# Altium schematic symbol library ARM Cortex.SchLib: 48 symbols (part 2 of 2)

## ST STM32F401 64PIN
designator IC?
pins: 1 VBAT, 2 PC13/ANTI_TAMP, 3 PC14/OSC32_IN "PC14-OSC32_IN/OSC32_IN", 4 PC15/OSC32_OUT "PC15-OSC32_OUT/OSC32_OUT", 5 PH0/OSC_IN "PH0-OSC_IN/OSC_IN", 6 PH1/OSC_OUT "PH1-OSC_OUT/OSC_OUT", 7 ~{RST} "NRST", 8 PC0/ADC1_10, 9 PC1/ADC1_11, 10 PC2/SPI2_MISO/I2S2ext_SD/ADC1_12, 11 PC3/SPI2_MOSI/I2S2_SD/ADC1_13, 12 VSSA/VREF-, 13 VDDA/VREF+, 14 PA0/WKUP/USART2_CTS/TIM2_CH1/TIM2_ETR/TIM5_CH1/ADC1_0, 15 PA1/USART2_RTS/TIM2_CH2/TIM5_CH2/ADC1_1, 16 PA2/USART2_TX/TIM2_CH3/TIM5_CH3/TIM9_CH1/ADC1_2, 17 PA3/USART2_RX/TIM2_CH4/TIM5_CH4/TIM9_CH2/ADC1_3, 18 VSS, 19 VDD, 20 PA4/SPI1_NSS/SPI3_NSS/I2S3_WS/USART2_CK/ADC1_4, 21 PA5/SPI1_SCK/TIM2_CH1/TIM2_ETR/ADC1_5, 22 PA6/SPI1_MISO/TIM1_BKIN/TIM3_CH1/ADC1_6, 23 PA7/SPI1_MOSI/TIM1_CH1N/TIM3_CH2/ADC1_7, 24 PC4/ADC1_14, 25 PC5/ADC1_15, 26 PB0/TIM1_CH2N/TIM3_CH3/ADC1_8, 27 PB1/TIM1_CH3N/TIM3_CH4/ADC1_9, 28 PB2, 29 PB10/SPI2_SCK/I2S2_CK/I2C2_SCL/TIM2_CH3, 30 VCAP1, 31 VSS, 32 VDD, 33 PB12/SPI2_NSS/I2S2_WS/I2C2_SMBAL/TIM1_BKIN, 34 PB13/SPI2_SCK/I2S2_CK/TIM1_CH1N, 35 PB14/SPI2_MISO/I2S2ext_SD/TIM1_CH2N, 36 PB15/SPI2_MOSI/I2S2_SD/TIM1_CH3N/RTC_50Hz, 37 PC6/I2S2_MCK/USART6_TX/TIM3_CH1/SDIO_D6, 38 PC7/I2S3_MCK/USART6_RX/TIM3_CH2/SDIO_D7, 39 PC8/USART6_CK/TIM3_CH3/SDIO_D0, 40 PC9/I2S2_CKIN/I2C3_SDA/TIM3_CH4/SDIO_D1/MCO_2, 41 PA8/I2C3_SCL/USART1_CK/TIM1_CH1/USB_FS_SOF/MCO_1, 42 PA9/I2C3_SMBAL/USART1_TX/TIM1_CH2/USB_FS_VBUS, 43 PA10/USART1_RX/TIM1_CH3/USB_FS_ID, 44 PA11/USART1_CTS/USART6_TX/TIM1_CH4/USB_FS_DM, 45 PA12/USART1_RTS/USART6_RX/TIM1_ETR/USB_FS_DP, 46 PA13/JTMS-SWDIO, 47 VSS, 48 VDD, 49 PA14/JTCK-SWCLK, 50 PA15/SPI1_NSS/SPI3_NSS/I2S3_WS/TIM2_CH1/TIM2_ETR/JTDI, 51 PC10/SPI3_SCK/I2S3_CK/SDIO_D2, 52 PC11/I2S3ext_SD/SPI3_MISO/SDIO_D3, 53 PC12/SPI3_MOSI/I2S3_SD/SDIO_CK, 54 PD2/TIM3_ETR/SDIO_CMD, 55 PB3/SPI1_SCK/SPI3_SCK/I2S3_CK/I2C2_SDA/TIM2_CH2/JTDO-SWO, 56 PB4/SPI1_MISO/SPI3_MISO/I2S3ext_SD/I2C3_SDA/TIM3_CH1/JTRST, 57 PB5/SPI1_MOSI/SPI3_MOSI/I2S3_SD/I2C1_SMBAL/TIM3_CH2, 58 PB6/I2C1_SCL/USART1_TX/TIM4_CH1, 59 PB7/I2C1_SDA/USART1_RX/TIM4_CH2, 60 BOOT0, 61 PB8/I2C1_SCL/TIM4_CH3/TIM10_CH1/SDIO_D4, 62 PB9/SPI2_NSS/I2S2_WS/I2C1_SDA/TIM4_CH4/TIM11_CH1/SDIO_D5, 63 VSS, 64 VDD

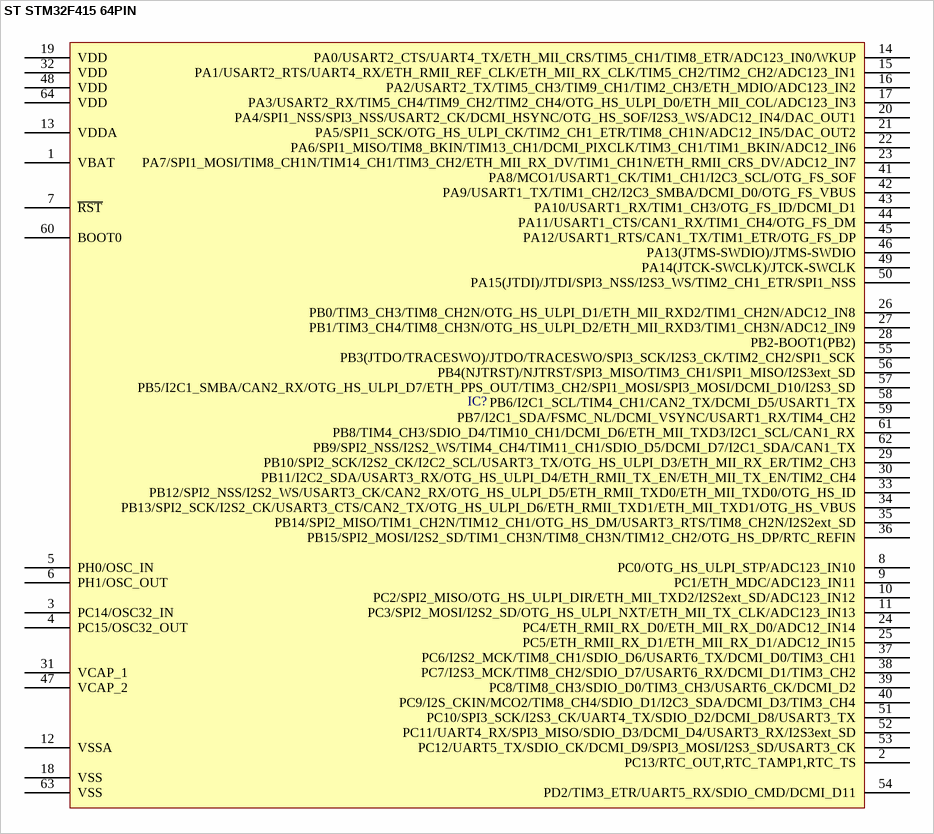
[diagram p12: symbol ST STM32F415 64PIN]

## ST STM32F415 64PIN
designator IC?
pins: 1 VBAT, 2 PC13/RTC_OUT,RTC_TAMP1,RTC_TS, 3 PC14/OSC32_IN "PC14-OSC32_IN(PC14)/EVENTOUT/OSC32_IN", 4 PC15/OSC32_OUT "PC15-OSC32_OUT(PC15)/EVENTOUT/OSC32_OUT", 5 PH0/OSC_IN "PH0-OSC_IN(PH0)/EVENTOUT/OSC_IN", 6 PH1/OSC_OUT "PH1-OSC_OUT(PH1)/EVENTOUT/OSC_OUT", 7 ~{RST} "NRST", 8 PC0/OTG_HS_ULPI_STP/ADC123_IN10, 9 PC1/ETH_MDC/ADC123_IN11, 10 PC2/SPI2_MISO/OTG_HS_ULPI_DIR/ETH_MII_TXD2/I2S2ext_SD/ADC123_IN12, 11 PC3/SPI2_MOSI/I2S2_SD/OTG_HS_ULPI_NXT/ETH_MII_TX_CLK/ADC123_IN13, 12 VSSA, 13 VDDA, 14 PA0/USART2_CTS/UART4_TX/ETH_MII_CRS/TIM5_CH1/TIM8_ETR/ADC123_IN0/WKUP, 15 PA1/USART2_RTS/UART4_RX/ETH_RMII_REF_CLK/ETH_MII_RX_CLK/TIM5_CH2/TIM2_CH2/ADC123_IN1, 16 PA2/USART2_TX/TIM5_CH3/TIM9_CH1/TIM2_CH3/ETH_MDIO/ADC123_IN2, 17 PA3/USART2_RX/TIM5_CH4/TIM9_CH2/TIM2_CH4/OTG_HS_ULPI_D0/ETH_MII_COL/ADC123_IN3, 18 VSS, 19 VDD, 20 PA4/SPI1_NSS/SPI3_NSS/USART2_CK/DCMI_HSYNC/OTG_HS_SOF/I2S3_WS/ADC12_IN4/DAC_OUT1, 21 PA5/SPI1_SCK/OTG_HS_ULPI_CK/TIM2_CH1_ETR/TIM8_CH1N/ADC12_IN5/DAC_OUT2, 22 PA6/SPI1_MISO/TIM8_BKIN/TIM13_CH1/DCMI_PIXCLK/TIM3_CH1/TIM1_BKIN/ADC12_IN6, 23 PA7/SPI1_MOSI/TIM8_CH1N/TIM14_CH1/TIM3_CH2/ETH_MII_RX_DV/TIM1_CH1N/ETH_RMII_CRS_DV/ADC12_IN7, 24 PC4/ETH_RMII_RX_D0/ETH_MII_RX_D0/ADC12_IN14, 25 PC5/ETH_RMII_RX_D1/ETH_MII_RX_D1/ADC12_IN15, 26 PB0/TIM3_CH3/TIM8_CH2N/OTG_HS_ULPI_D1/ETH_MII_RXD2/TIM1_CH2N/ADC12_IN8, 27 PB1/TIM3_CH4/TIM8_CH3N/OTG_HS_ULPI_D2/ETH_MII_RXD3/TIM1_CH3N/ADC12_IN9, 28 PB2-BOOT1(PB2), 29 PB10/SPI2_SCK/I2S2_CK/I2C2_SCL/USART3_TX/OTG_HS_ULPI_D3/ETH_MII_RX_ER/TIM2_CH3, 30 PB11/I2C2_SDA/USART3_RX/OTG_HS_ULPI_D4/ETH_RMII_TX_EN/ETH_MII_TX_EN/TIM2_CH4, 31 VCAP_1, 32 VDD, 33 PB12/SPI2_NSS/I2S2_WS/USART3_CK/CAN2_RX/OTG_HS_ULPI_D5/ETH_RMII_TXD0/ETH_MII_TXD0/OTG_HS_ID "PB12/SPI2_NSS/I2S2_WS/I2C2_SMBA/USART3_CK/CAN2_RX/OTG_HS_ULPI_D5/ETH_RMII_TXD0/ETH_MII_TXD0/OTG_HS_ID", 34 PB13/SPI2_SCK/I2S2_CK/USART3_CTS/CAN2_TX/OTG_HS_ULPI_D6/ETH_RMII_TXD1/ETH_MII_TXD1/OTG_HS_VBUS "PB13/SPI2_SCK/I2S2_CK/USART3_CTS/TIM1_CH1N/CAN2_TX/OTG_HS_ULPI_D6/ETH_RMII_TXD1/ETH_MII_TXD1/OTG_HS_VBUS", 35 PB14/SPI2_MISO/TIM1_CH2N/TIM12_CH1/OTG_HS_DM/USART3_RTS/TIM8_CH2N/I2S2ext_SD, 36 PB15/SPI2_MOSI/I2S2_SD/TIM1_CH3N/TIM8_CH3N/TIM12_CH2/OTG_HS_DP/RTC_REFIN, 37 PC6/I2S2_MCK/TIM8_CH1/SDIO_D6/USART6_TX/DCMI_D0/TIM3_CH1, 38 PC7/I2S3_MCK/TIM8_CH2/SDIO_D7/USART6_RX/DCMI_D1/TIM3_CH2, 39 PC8/TIM8_CH3/SDIO_D0/TIM3_CH3/USART6_CK/DCMI_D2, 40 PC9/I2S_CKIN/MCO2/TIM8_CH4/SDIO_D1/I2C3_SDA/DCMI_D3/TIM3_CH4, 41 PA8/MCO1/USART1_CK/TIM1_CH1/I2C3_SCL/OTG_FS_SOF, 42 PA9/USART1_TX/TIM1_CH2/I2C3_SMBA/DCMI_D0/OTG_FS_VBUS, 43 PA10/USART1_RX/TIM1_CH3/OTG_FS_ID/DCMI_D1, 44 PA11/USART1_CTS/CAN1_RX/TIM1_CH4/OTG_FS_DM, 45 PA12/USART1_RTS/CAN1_TX/TIM1_ETR/OTG_FS_DP, 46 PA13(JTMS-SWDIO)/JTMS-SWDIO, 47 VCAP_2, 48 VDD, 49 PA14(JTCK-SWCLK)/JTCK-SWCLK, 50 PA15(JTDI)/JTDI/SPI3_NSS/I2S3_WS/TIM2_CH1_ETR/SPI1_NSS, 51 PC10/SPI3_SCK/I2S3_CK/UART4_TX/SDIO_D2/DCMI_D8/USART3_TX, 52 PC11/UART4_RX/SPI3_MISO/SDIO_D3/DCMI_D4/USART3_RX/I2S3ext_SD, 53 PC12/UART5_TX/SDIO_CK/DCMI_D9/SPI3_MOSI/I2S3_SD/USART3_CK, 54 PD2/TIM3_ETR/UART5_RX/SDIO_CMD/DCMI_D11, 55 PB3(JTDO/TRACESWO)/JTDO/TRACESWO/SPI3_SCK/I2S3_CK/TIM2_CH2/SPI1_SCK, 56 PB4(NJTRST)/NJTRST/SPI3_MISO/TIM3_CH1/SPI1_MISO/I2S3ext_SD, 57 PB5/I2C1_SMBA/CAN2_RX/OTG_HS_ULPI_D7/ETH_PPS_OUT/TIM3_CH2/SPI1_MOSI/SPI3_MOSI/DCMI_D10/I2S3_SD, 58 PB6/I2C1_SCL/TIM4_CH1/CAN2_TX/DCMI_D5/USART1_TX, 59 PB7/I2C1_SDA/FSMC_NL/DCMI_VSYNC/USART1_RX/TIM4_CH2, 60 BOOT0 "BOOT0/VPP", 61 PB8/TIM4_CH3/SDIO_D4/TIM10_CH1/DCMI_D6/ETH_MII_TXD3/I2C1_SCL/CAN1_RX, 62 PB9/SPI2_NSS/I2S2_WS/TIM4_CH4/TIM11_CH1/SDIO_D5/DCMI_D7/I2C1_SDA/CAN1_TX, 63 VSS, 64 VDD

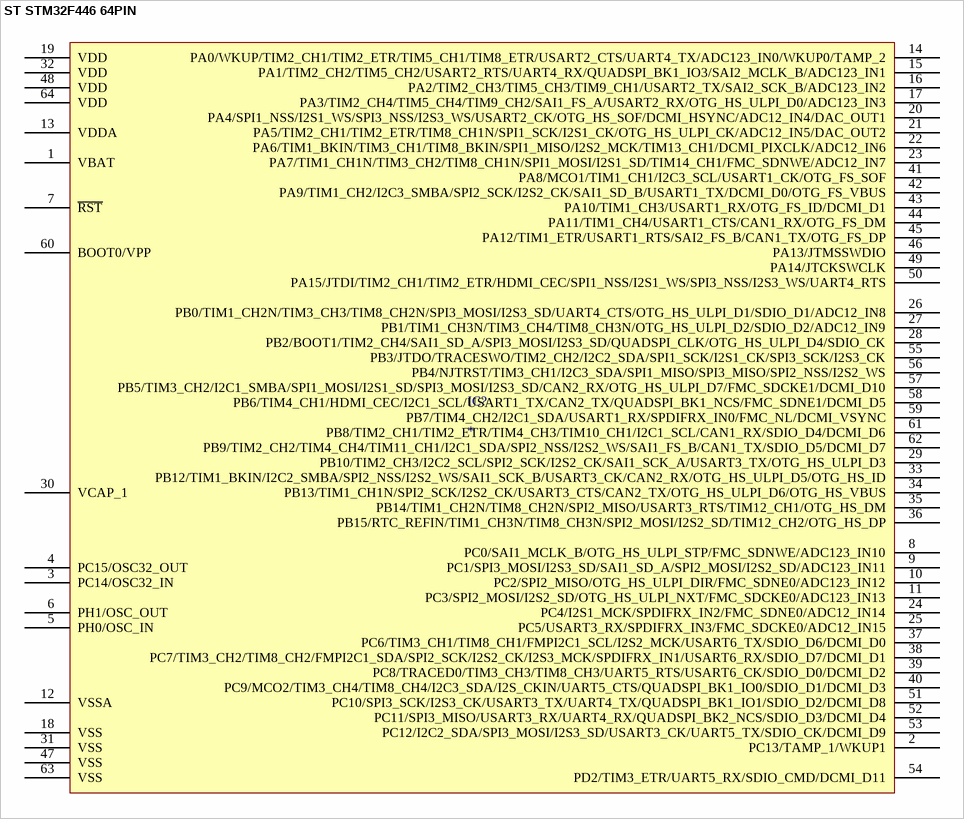
[diagram p13: symbol ST STM32F446 64PIN]

## ST STM32F446 64PIN
designator IC?
pins: 1 VBAT, 2 PC13/TAMP_1/WKUP1, 3 PC14/OSC32_IN, 4 PC15/OSC32_OUT, 5 PH0/OSC_IN, 6 PH1/OSC_OUT, 7 ~{RST}, 8 PC0/SAI1_MCLK_B/OTG_HS_ULPI_STP/FMC_SDNWE/ADC123_IN10, 9 PC1/SPI3_MOSI/I2S3_SD/SAI1_SD_A/SPI2_MOSI/I2S2_SD/ADC123_IN11, 10 PC2/SPI2_MISO/OTG_HS_ULPI_DIR/FMC_SDNE0/ADC123_IN12, 11 PC3/SPI2_MOSI/I2S2_SD/OTG_HS_ULPI_NXT/FMC_SDCKE0/ADC123_IN13, 12 VSSA, 13 VDDA, 14 PA0/WKUP/TIM2_CH1/TIM2_ETR/TIM5_CH1/TIM8_ETR/USART2_CTS/UART4_TX/ADC123_IN0/WKUP0/TAMP_2, 15 PA1/TIM2_CH2/TIM5_CH2/USART2_RTS/UART4_RX/QUADSPI_BK1_IO3/SAI2_MCLK_B/ADC123_IN1, 16 PA2/TIM2_CH3/TIM5_CH3/TIM9_CH1/USART2_TX/SAI2_SCK_B/ADC123_IN2, 17 PA3/TIM2_CH4/TIM5_CH4/TIM9_CH2/SAI1_FS_A/USART2_RX/OTG_HS_ULPI_D0/ADC123_IN3, 18 VSS, 19 VDD, 20 PA4/SPI1_NSS/I2S1_WS/SPI3_NSS/I2S3_WS/USART2_CK/OTG_HS_SOF/DCMI_HSYNC/ADC12_IN4/DAC_OUT1, 21 PA5/TIM2_CH1/TIM2_ETR/TIM8_CH1N/SPI1_SCK/I2S1_CK/OTG_HS_ULPI_CK/ADC12_IN5/DAC_OUT2, 22 PA6/TIM1_BKIN/TIM3_CH1/TIM8_BKIN/SPI1_MISO/I2S2_MCK/TIM13_CH1/DCMI_PIXCLK/ADC12_IN6, 23 PA7/TIM1_CH1N/TIM3_CH2/TIM8_CH1N/SPI1_MOSI/I2S1_SD/TIM14_CH1/FMC_SDNWE/ADC12_IN7, 24 PC4/I2S1_MCK/SPDIFRX_IN2/FMC_SDNE0/ADC12_IN14, 25 PC5/USART3_RX/SPDIFRX_IN3/FMC_SDCKE0/ADC12_IN15, 26 PB0/TIM1_CH2N/TIM3_CH3/TIM8_CH2N/SPI3_MOSI/I2S3_SD/UART4_CTS/OTG_HS_ULPI_D1/SDIO_D1/ADC12_IN8, 27 PB1/TIM1_CH3N/TIM3_CH4/TIM8_CH3N/OTG_HS_ULPI_D2/SDIO_D2/ADC12_IN9, 28 PB2/BOOT1/TIM2_CH4/SAI1_SD_A/SPI3_MOSI/I2S3_SD/QUADSPI_CLK/OTG_HS_ULPI_D4/SDIO_CK, 29 PB10/TIM2_CH3/I2C2_SCL/SPI2_SCK/I2S2_CK/SAI1_SCK_A/USART3_TX/OTG_HS_ULPI_D3, 30 VCAP_1, 31 VSS, 32 VDD, 33 PB12/TIM1_BKIN/I2C2_SMBA/SPI2_NSS/I2S2_WS/SAI1_SCK_B/USART3_CK/CAN2_RX/OTG_HS_ULPI_D5/OTG_HS_ID, 34 PB13/TIM1_CH1N/SPI2_SCK/I2S2_CK/USART3_CTS/CAN2_TX/OTG_HS_ULPI_D6/OTG_HS_VBUS, 35 PB14/TIM1_CH2N/TIM8_CH2N/SPI2_MISO/USART3_RTS/TIM12_CH1/OTG_HS_DM, 36 PB15/RTC_REFIN/TIM1_CH3N/TIM8_CH3N/SPI2_MOSI/I2S2_SD/TIM12_CH2/OTG_HS_DP, 37 PC6/TIM3_CH1/TIM8_CH1/FMPI2C1_SCL/I2S2_MCK/USART6_TX/SDIO_D6/DCMI_D0, 38 PC7/TIM3_CH2/TIM8_CH2/FMPI2C1_SDA/SPI2_SCK/I2S2_CK/I2S3_MCK/SPDIFRX_IN1/USART6_RX/SDIO_D7/DCMI_D1, 39 PC8/TRACED0/TIM3_CH3/TIM8_CH3/UART5_RTS/USART6_CK/SDIO_D0/DCMI_D2, 40 PC9/MCO2/TIM3_CH4/TIM8_CH4/I2C3_SDA/I2S_CKIN/UART5_CTS/QUADSPI_BK1_IO0/SDIO_D1/DCMI_D3, 41 PA8/MCO1/TIM1_CH1/I2C3_SCL/USART1_CK/OTG_FS_SOF, 42 PA9/TIM1_CH2/I2C3_SMBA/SPI2_SCK/I2S2_CK/SAI1_SD_B/USART1_TX/DCMI_D0/OTG_FS_VBUS, 43 PA10/TIM1_CH3/USART1_RX/OTG_FS_ID/DCMI_D1, 44 PA11/TIM1_CH4/USART1_CTS/CAN1_RX/OTG_FS_DM, 45 PA12/TIM1_ETR/USART1_RTS/SAI2_FS_B/CAN1_TX/OTG_FS_DP, 46 PA13/JTMSSWDIO, 47 VSS, 48 VDD, 49 PA14/JTCKSWCLK, 50 PA15/JTDI/TIM2_CH1/TIM2_ETR/HDMI_CEC/SPI1_NSS/I2S1_WS/SPI3_NSS/I2S3_WS/UART4_RTS, 51 PC10/SPI3_SCK/I2S3_CK/USART3_TX/UART4_TX/QUADSPI_BK1_IO1/SDIO_D2/DCMI_D8, 52 PC11/SPI3_MISO/USART3_RX/UART4_RX/QUADSPI_BK2_NCS/SDIO_D3/DCMI_D4, 53 PC12/I2C2_SDA/SPI3_MOSI/I2S3_SD/USART3_CK/UART5_TX/SDIO_CK/DCMI_D9, 54 PD2/TIM3_ETR/UART5_RX/SDIO_CMD/DCMI_D11, 55 PB3/JTDO/TRACESWO/TIM2_CH2/I2C2_SDA/SPI1_SCK/I2S1_CK/SPI3_SCK/I2S3_CK, 56 PB4/NJTRST/TIM3_CH1/I2C3_SDA/SPI1_MISO/SPI3_MISO/SPI2_NSS/I2S2_WS, 57 PB5/TIM3_CH2/I2C1_SMBA/SPI1_MOSI/I2S1_SD/SPI3_MOSI/I2S3_SD/CAN2_RX/OTG_HS_ULPI_D7/FMC_SDCKE1/DCMI_D10, 58 PB6/TIM4_CH1/HDMI_CEC/I2C1_SCL/USART1_TX/CAN2_TX/QUADSPI_BK1_NCS/FMC_SDNE1/DCMI_D5, 59 PB7/TIM4_CH2/I2C1_SDA/USART1_RX/SPDIFRX_IN0/FMC_NL/DCMI_VSYNC, 60 BOOT0/VPP, 61 PB8/TIM2_CH1/TIM2_ETR/TIM4_CH3/TIM10_CH1/I2C1_SCL/CAN1_RX/SDIO_D4/DCMI_D6, 62 PB9/TIM2_CH2/TIM4_CH4/TIM11_CH1/I2C1_SDA/SPI2_NSS/I2S2_WS/SAI1_FS_B/CAN1_TX/SDIO_D5/DCMI_D7, 63 VSS, 64 VDD

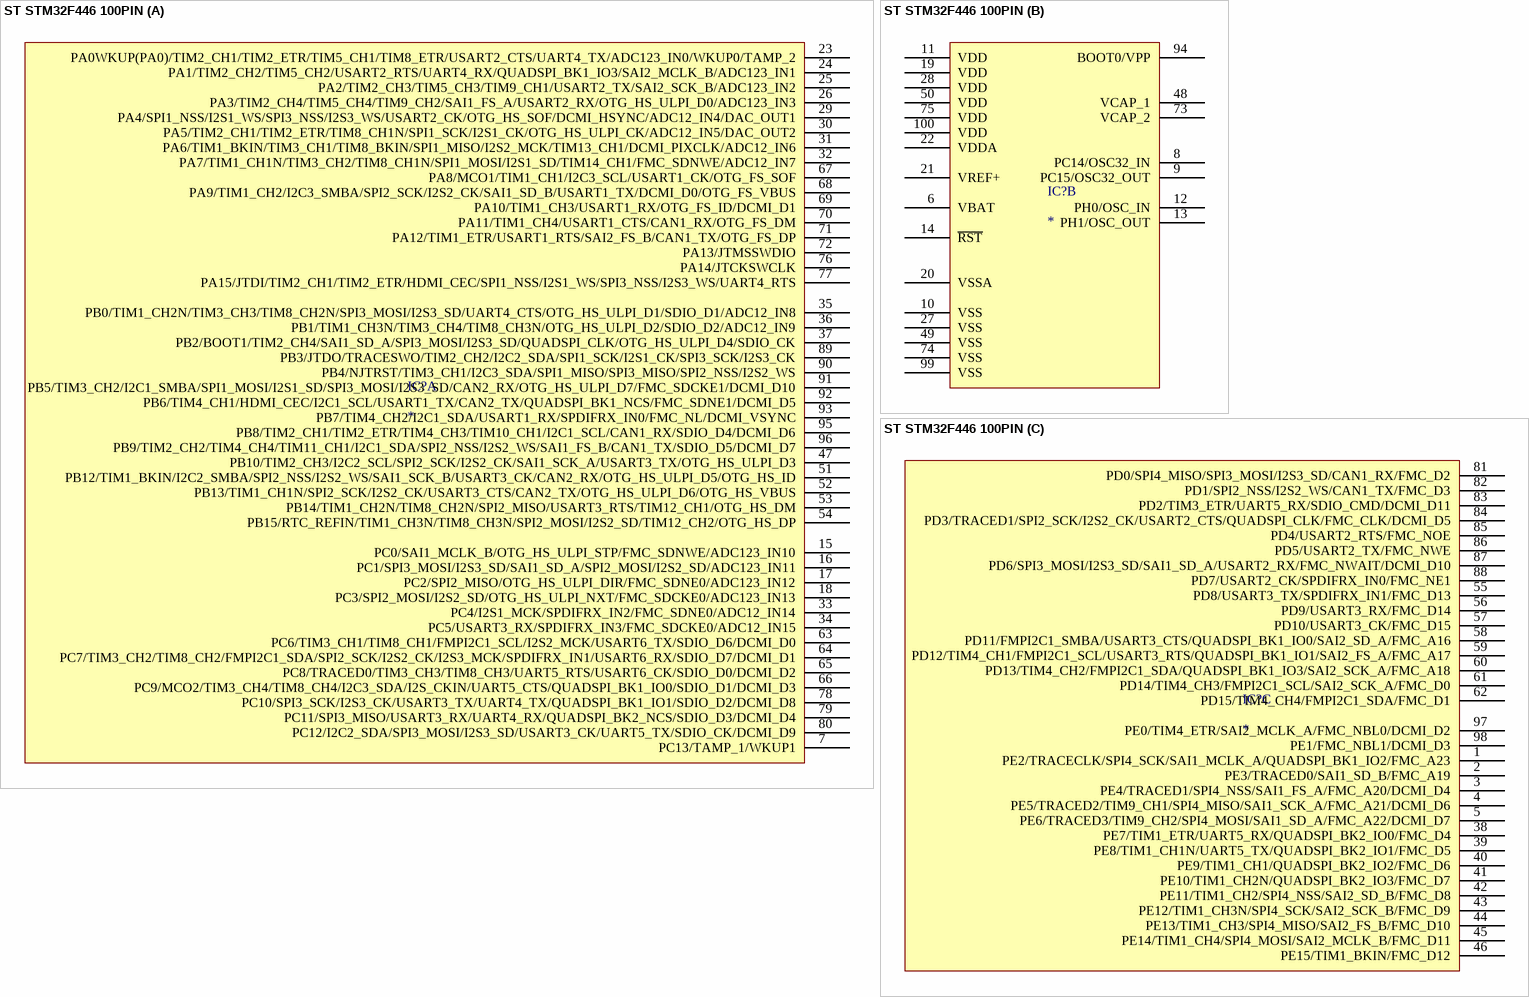
[diagram p14: symbol ST STM32F446 100PIN]

## ST STM32F446 100PIN
designator IC?
part A pins: 7 PC13/TAMP_1/WKUP1, 15 PC0/SAI1_MCLK_B/OTG_HS_ULPI_STP/FMC_SDNWE/ADC123_IN10, 16 PC1/SPI3_MOSI/I2S3_SD/SAI1_SD_A/SPI2_MOSI/I2S2_SD/ADC123_IN11, 17 PC2/SPI2_MISO/OTG_HS_ULPI_DIR/FMC_SDNE0/ADC123_IN12, 18 PC3/SPI2_MOSI/I2S2_SD/OTG_HS_ULPI_NXT/FMC_SDCKE0/ADC123_IN13, 23 PA0WKUP(PA0)/TIM2_CH1/TIM2_ETR/TIM5_CH1/TIM8_ETR/USART2_CTS/UART4_TX/ADC123_IN0/WKUP0/TAMP_2, 24 PA1/TIM2_CH2/TIM5_CH2/USART2_RTS/UART4_RX/QUADSPI_BK1_IO3/SAI2_MCLK_B/ADC123_IN1, 25 PA2/TIM2_CH3/TIM5_CH3/TIM9_CH1/USART2_TX/SAI2_SCK_B/ADC123_IN2, 26 PA3/TIM2_CH4/TIM5_CH4/TIM9_CH2/SAI1_FS_A/USART2_RX/OTG_HS_ULPI_D0/ADC123_IN3, 29 PA4/SPI1_NSS/I2S1_WS/SPI3_NSS/I2S3_WS/USART2_CK/OTG_HS_SOF/DCMI_HSYNC/ADC12_IN4/DAC_OUT1, 30 PA5/TIM2_CH1/TIM2_ETR/TIM8_CH1N/SPI1_SCK/I2S1_CK/OTG_HS_ULPI_CK/ADC12_IN5/DAC_OUT2, 31 PA6/TIM1_BKIN/TIM3_CH1/TIM8_BKIN/SPI1_MISO/I2S2_MCK/TIM13_CH1/DCMI_PIXCLK/ADC12_IN6, 32 PA7/TIM1_CH1N/TIM3_CH2/TIM8_CH1N/SPI1_MOSI/I2S1_SD/TIM14_CH1/FMC_SDNWE/ADC12_IN7, 33 PC4/I2S1_MCK/SPDIFRX_IN2/FMC_SDNE0/ADC12_IN14, 34 PC5/USART3_RX/SPDIFRX_IN3/FMC_SDCKE0/ADC12_IN15, 35 PB0/TIM1_CH2N/TIM3_CH3/TIM8_CH2N/SPI3_MOSI/I2S3_SD/UART4_CTS/OTG_HS_ULPI_D1/SDIO_D1/ADC12_IN8, 36 PB1/TIM1_CH3N/TIM3_CH4/TIM8_CH3N/OTG_HS_ULPI_D2/SDIO_D2/ADC12_IN9, 37 PB2/BOOT1/TIM2_CH4/SAI1_SD_A/SPI3_MOSI/I2S3_SD/QUADSPI_CLK/OTG_HS_ULPI_D4/SDIO_CK, 47 PB10/TIM2_CH3/I2C2_SCL/SPI2_SCK/I2S2_CK/SAI1_SCK_A/USART3_TX/OTG_HS_ULPI_D3, 51 PB12/TIM1_BKIN/I2C2_SMBA/SPI2_NSS/I2S2_WS/SAI1_SCK_B/USART3_CK/CAN2_RX/OTG_HS_ULPI_D5/OTG_HS_ID, 52 PB13/TIM1_CH1N/SPI2_SCK/I2S2_CK/USART3_CTS/CAN2_TX/OTG_HS_ULPI_D6/OTG_HS_VBUS, 53 PB14/TIM1_CH2N/TIM8_CH2N/SPI2_MISO/USART3_RTS/TIM12_CH1/OTG_HS_DM, 54 PB15/RTC_REFIN/TIM1_CH3N/TIM8_CH3N/SPI2_MOSI/I2S2_SD/TIM12_CH2/OTG_HS_DP, 63 PC6/TIM3_CH1/TIM8_CH1/FMPI2C1_SCL/I2S2_MCK/USART6_TX/SDIO_D6/DCMI_D0, 64 PC7/TIM3_CH2/TIM8_CH2/FMPI2C1_SDA/SPI2_SCK/I2S2_CK/I2S3_MCK/SPDIFRX_IN1/USART6_RX/SDIO_D7/DCMI_D1, 65 PC8/TRACED0/TIM3_CH3/TIM8_CH3/UART5_RTS/USART6_CK/SDIO_D0/DCMI_D2, 66 PC9/MCO2/TIM3_CH4/TIM8_CH4/I2C3_SDA/I2S_CKIN/UART5_CTS/QUADSPI_BK1_IO0/SDIO_D1/DCMI_D3, 67 PA8/MCO1/TIM1_CH1/I2C3_SCL/USART1_CK/OTG_FS_SOF, 68 PA9/TIM1_CH2/I2C3_SMBA/SPI2_SCK/I2S2_CK/SAI1_SD_B/USART1_TX/DCMI_D0/OTG_FS_VBUS, 69 PA10/TIM1_CH3/USART1_RX/OTG_FS_ID/DCMI_D1, 70 PA11/TIM1_CH4/USART1_CTS/CAN1_RX/OTG_FS_DM, 71 PA12/TIM1_ETR/USART1_RTS/SAI2_FS_B/CAN1_TX/OTG_FS_DP, 72 PA13/JTMSSWDIO, 76 PA14/JTCKSWCLK, 77 PA15/JTDI/TIM2_CH1/TIM2_ETR/HDMI_CEC/SPI1_NSS/I2S1_WS/SPI3_NSS/I2S3_WS/UART4_RTS, 78 PC10/SPI3_SCK/I2S3_CK/USART3_TX/UART4_TX/QUADSPI_BK1_IO1/SDIO_D2/DCMI_D8, 79 PC11/SPI3_MISO/USART3_RX/UART4_RX/QUADSPI_BK2_NCS/SDIO_D3/DCMI_D4, 80 PC12/I2C2_SDA/SPI3_MOSI/I2S3_SD/USART3_CK/UART5_TX/SDIO_CK/DCMI_D9, 89 PB3/JTDO/TRACESWO/TIM2_CH2/I2C2_SDA/SPI1_SCK/I2S1_CK/SPI3_SCK/I2S3_CK, 90 PB4/NJTRST/TIM3_CH1/I2C3_SDA/SPI1_MISO/SPI3_MISO/SPI2_NSS/I2S2_WS, 91 PB5/TIM3_CH2/I2C1_SMBA/SPI1_MOSI/I2S1_SD/SPI3_MOSI/I2S3_SD/CAN2_RX/OTG_HS_ULPI_D7/FMC_SDCKE1/DCMI_D10, 92 PB6/TIM4_CH1/HDMI_CEC/I2C1_SCL/USART1_TX/CAN2_TX/QUADSPI_BK1_NCS/FMC_SDNE1/DCMI_D5, 93 PB7/TIM4_CH2/I2C1_SDA/USART1_RX/SPDIFRX_IN0/FMC_NL/DCMI_VSYNC, 95 PB8/TIM2_CH1/TIM2_ETR/TIM4_CH3/TIM10_CH1/I2C1_SCL/CAN1_RX/SDIO_D4/DCMI_D6, 96 PB9/TIM2_CH2/TIM4_CH4/TIM11_CH1/I2C1_SDA/SPI2_NSS/I2S2_WS/SAI1_FS_B/CAN1_TX/SDIO_D5/DCMI_D7
part B pins: 6 VBAT, 8 PC14/OSC32_IN, 9 PC15/OSC32_OUT, 10 VSS, 11 VDD, 12 PH0/OSC_IN, 13 PH1/OSC_OUT, 14 ~{RST}, 19 VDD, 20 VSSA, 21 VREF+, 22 VDDA, 27 VSS, 28 VDD, 48 VCAP_1, 49 VSS, 50 VDD, 73 VCAP_2, 74 VSS, 75 VDD, 94 BOOT0/VPP, 99 VSS, 100 VDD
part C pins: 1 PE2/TRACECLK/SPI4_SCK/SAI1_MCLK_A/QUADSPI_BK1_IO2/FMC_A23, 2 PE3/TRACED0/SAI1_SD_B/FMC_A19, 3 PE4/TRACED1/SPI4_NSS/SAI1_FS_A/FMC_A20/DCMI_D4, 4 PE5/TRACED2/TIM9_CH1/SPI4_MISO/SAI1_SCK_A/FMC_A21/DCMI_D6, 5 PE6/TRACED3/TIM9_CH2/SPI4_MOSI/SAI1_SD_A/FMC_A22/DCMI_D7, 38 PE7/TIM1_ETR/UART5_RX/QUADSPI_BK2_IO0/FMC_D4, 39 PE8/TIM1_CH1N/UART5_TX/QUADSPI_BK2_IO1/FMC_D5, 40 PE9/TIM1_CH1/QUADSPI_BK2_IO2/FMC_D6, 41 PE10/TIM1_CH2N/QUADSPI_BK2_IO3/FMC_D7, 42 PE11/TIM1_CH2/SPI4_NSS/SAI2_SD_B/FMC_D8, 43 PE12/TIM1_CH3N/SPI4_SCK/SAI2_SCK_B/FMC_D9, 44 PE13/TIM1_CH3/SPI4_MISO/SAI2_FS_B/FMC_D10, 45 PE14/TIM1_CH4/SPI4_MOSI/SAI2_MCLK_B/FMC_D11, 46 PE15/TIM1_BKIN/FMC_D12, 55 PD8/USART3_TX/SPDIFRX_IN1/FMC_D13, 56 PD9/USART3_RX/FMC_D14, 57 PD10/USART3_CK/FMC_D15, 58 PD11/FMPI2C1_SMBA/USART3_CTS/QUADSPI_BK1_IO0/SAI2_SD_A/FMC_A16, 59 PD12/TIM4_CH1/FMPI2C1_SCL/USART3_RTS/QUADSPI_BK1_IO1/SAI2_FS_A/FMC_A17, 60 PD13/TIM4_CH2/FMPI2C1_SDA/QUADSPI_BK1_IO3/SAI2_SCK_A/FMC_A18, 61 PD14/TIM4_CH3/FMPI2C1_SCL/SAI2_SCK_A/FMC_D0, 62 PD15/TIM4_CH4/FMPI2C1_SDA/FMC_D1, 81 PD0/SPI4_MISO/SPI3_MOSI/I2S3_SD/CAN1_RX/FMC_D2, 82 PD1/SPI2_NSS/I2S2_WS/CAN1_TX/FMC_D3, 83 PD2/TIM3_ETR/UART5_RX/SDIO_CMD/DCMI_D11, 84 PD3/TRACED1/SPI2_SCK/I2S2_CK/USART2_CTS/QUADSPI_CLK/FMC_CLK/DCMI_D5, 85 PD4/USART2_RTS/FMC_NOE, 86 PD5/USART2_TX/FMC_NWE, 87 PD6/SPI3_MOSI/I2S3_SD/SAI1_SD_A/USART2_RX/FMC_NWAIT/DCMI_D10, 88 PD7/USART2_CK/SPDIFRX_IN0/FMC_NE1, 97 PE0/TIM4_ETR/SAI2_MCLK_A/FMC_NBL0/DCMI_D2, 98 PE1/FMC_NBL1/DCMI_D3

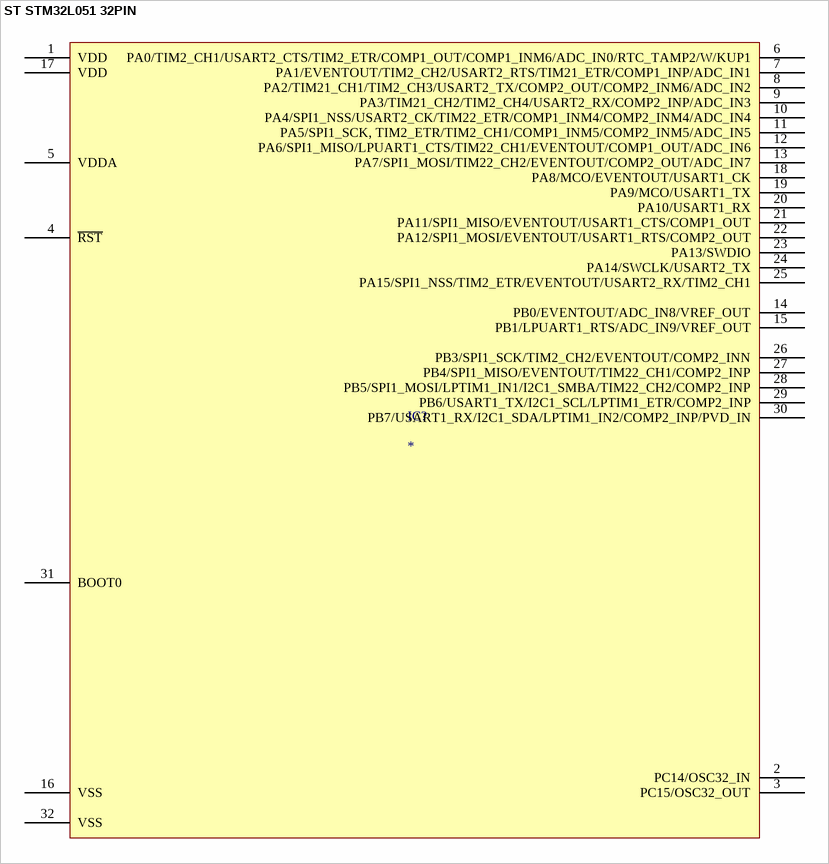
[diagram p15: symbol ST STM32L051 32PIN]

## ST STM32L051 32PIN
designator IC?
pins: 1 VDD, 2 PC14/OSC32_IN, 3 PC15/OSC32_OUT, 4 ~{RST}, 5 VDDA, 6 PA0/TIM2_CH1/USART2_CTS/TIM2_ETR/COMP1_OUT/COMP1_INM6/ADC_IN0/RTC_TAMP2/W/KUP1, 7 PA1/EVENTOUT/TIM2_CH2/USART2_RTS/TIM21_ETR/COMP1_INP/ADC_IN1, 8 PA2/TIM21_CH1/TIM2_CH3/USART2_TX/COMP2_OUT/COMP2_INM6/ADC_IN2, 9 PA3/TIM21_CH2/TIM2_CH4/USART2_RX/COMP2_INP/ADC_IN3, 10 PA4/SPI1_NSS/USART2_CK/TIM22_ETR/COMP1_INM4/COMP2_INM4/ADC_IN4, 11 PA5/SPI1_SCK, TIM2_ETR/TIM2_CH1/COMP1_INM5/COMP2_INM5/ADC_IN5, 12 PA6/SPI1_MISO/LPUART1_CTS/TIM22_CH1/EVENTOUT/COMP1_OUT/ADC_IN6, 13 PA7/SPI1_MOSI/TIM22_CH2/EVENTOUT/COMP2_OUT/ADC_IN7, 14 PB0/EVENTOUT/ADC_IN8/VREF_OUT, 15 PB1/LPUART1_RTS/ADC_IN9/VREF_OUT, 16 VSS, 17 VDD, 18 PA8/MCO/EVENTOUT/USART1_CK, 19 PA9/MCO/USART1_TX, 20 PA10/USART1_RX, 21 PA11/SPI1_MISO/EVENTOUT/USART1_CTS/COMP1_OUT, 22 PA12/SPI1_MOSI/EVENTOUT/USART1_RTS/COMP2_OUT, 23 PA13/SWDIO, 24 PA14/SWCLK/USART2_TX, 25 PA15/SPI1_NSS/TIM2_ETR/EVENTOUT/USART2_RX/TIM2_CH1, 26 PB3/SPI1_SCK/TIM2_CH2/EVENTOUT/COMP2_INN, 27 PB4/SPI1_MISO/EVENTOUT/TIM22_CH1/COMP2_INP, 28 PB5/SPI1_MOSI/LPTIM1_IN1/I2C1_SMBA/TIM22_CH2/COMP2_INP, 29 PB6/USART1_TX/I2C1_SCL/LPTIM1_ETR/COMP2_INP, 30 PB7/USART1_RX/I2C1_SDA/LPTIM1_IN2/COMP2_INP/PVD_IN, 31 BOOT0, 32 VSS

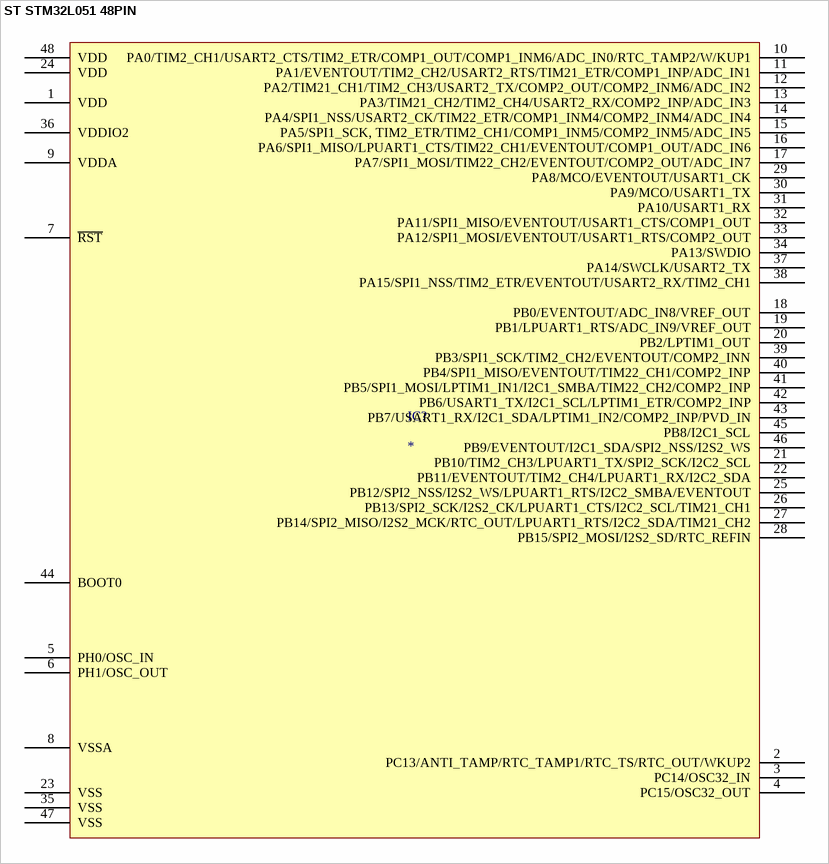
[diagram p16: symbol ST STM32L051 48PIN]

## ST STM32L051 48PIN
designator IC?
pins: 1 VDD, 2 PC13/ANTI_TAMP/RTC_TAMP1/RTC_TS/RTC_OUT/WKUP2, 3 PC14/OSC32_IN, 4 PC15/OSC32_OUT, 5 PH0/OSC_IN, 6 PH1/OSC_OUT, 7 ~{RST}, 8 VSSA, 9 VDDA, 10 PA0/TIM2_CH1/USART2_CTS/TIM2_ETR/COMP1_OUT/COMP1_INM6/ADC_IN0/RTC_TAMP2/W/KUP1, 11 PA1/EVENTOUT/TIM2_CH2/USART2_RTS/TIM21_ETR/COMP1_INP/ADC_IN1, 12 PA2/TIM21_CH1/TIM2_CH3/USART2_TX/COMP2_OUT/COMP2_INM6/ADC_IN2, 13 PA3/TIM21_CH2/TIM2_CH4/USART2_RX/COMP2_INP/ADC_IN3, 14 PA4/SPI1_NSS/USART2_CK/TIM22_ETR/COMP1_INM4/COMP2_INM4/ADC_IN4, 15 PA5/SPI1_SCK, TIM2_ETR/TIM2_CH1/COMP1_INM5/COMP2_INM5/ADC_IN5, 16 PA6/SPI1_MISO/LPUART1_CTS/TIM22_CH1/EVENTOUT/COMP1_OUT/ADC_IN6, 17 PA7/SPI1_MOSI/TIM22_CH2/EVENTOUT/COMP2_OUT/ADC_IN7, 18 PB0/EVENTOUT/ADC_IN8/VREF_OUT, 19 PB1/LPUART1_RTS/ADC_IN9/VREF_OUT, 20 PB2/LPTIM1_OUT, 21 PB10/TIM2_CH3/LPUART1_TX/SPI2_SCK/I2C2_SCL, 22 PB11/EVENTOUT/TIM2_CH4/LPUART1_RX/I2C2_SDA, 23 VSS, 24 VDD, 25 PB12/SPI2_NSS/I2S2_WS/LPUART1_RTS/I2C2_SMBA/EVENTOUT, 26 PB13/SPI2_SCK/I2S2_CK/LPUART1_CTS/I2C2_SCL/TIM21_CH1, 27 PB14/SPI2_MISO/I2S2_MCK/RTC_OUT/LPUART1_RTS/I2C2_SDA/TIM21_CH2, 28 PB15/SPI2_MOSI/I2S2_SD/RTC_REFIN, 29 PA8/MCO/EVENTOUT/USART1_CK, 30 PA9/MCO/USART1_TX, 31 PA10/USART1_RX, 32 PA11/SPI1_MISO/EVENTOUT/USART1_CTS/COMP1_OUT, 33 PA12/SPI1_MOSI/EVENTOUT/USART1_RTS/COMP2_OUT, 34 PA13/SWDIO, 35 VSS, 36 VDDIO2, 37 PA14/SWCLK/USART2_TX, 38 PA15/SPI1_NSS/TIM2_ETR/EVENTOUT/USART2_RX/TIM2_CH1, 39 PB3/SPI1_SCK/TIM2_CH2/EVENTOUT/COMP2_INN, 40 PB4/SPI1_MISO/EVENTOUT/TIM22_CH1/COMP2_INP, 41 PB5/SPI1_MOSI/LPTIM1_IN1/I2C1_SMBA/TIM22_CH2/COMP2_INP, 42 PB6/USART1_TX/I2C1_SCL/LPTIM1_ETR/COMP2_INP, 43 PB7/USART1_RX/I2C1_SDA/LPTIM1_IN2/COMP2_INP/PVD_IN, 44 BOOT0, 45 PB8/I2C1_SCL, 46 PB9/EVENTOUT/I2C1_SDA/SPI2_NSS/I2S2_WS, 47 VSS, 48 VDD

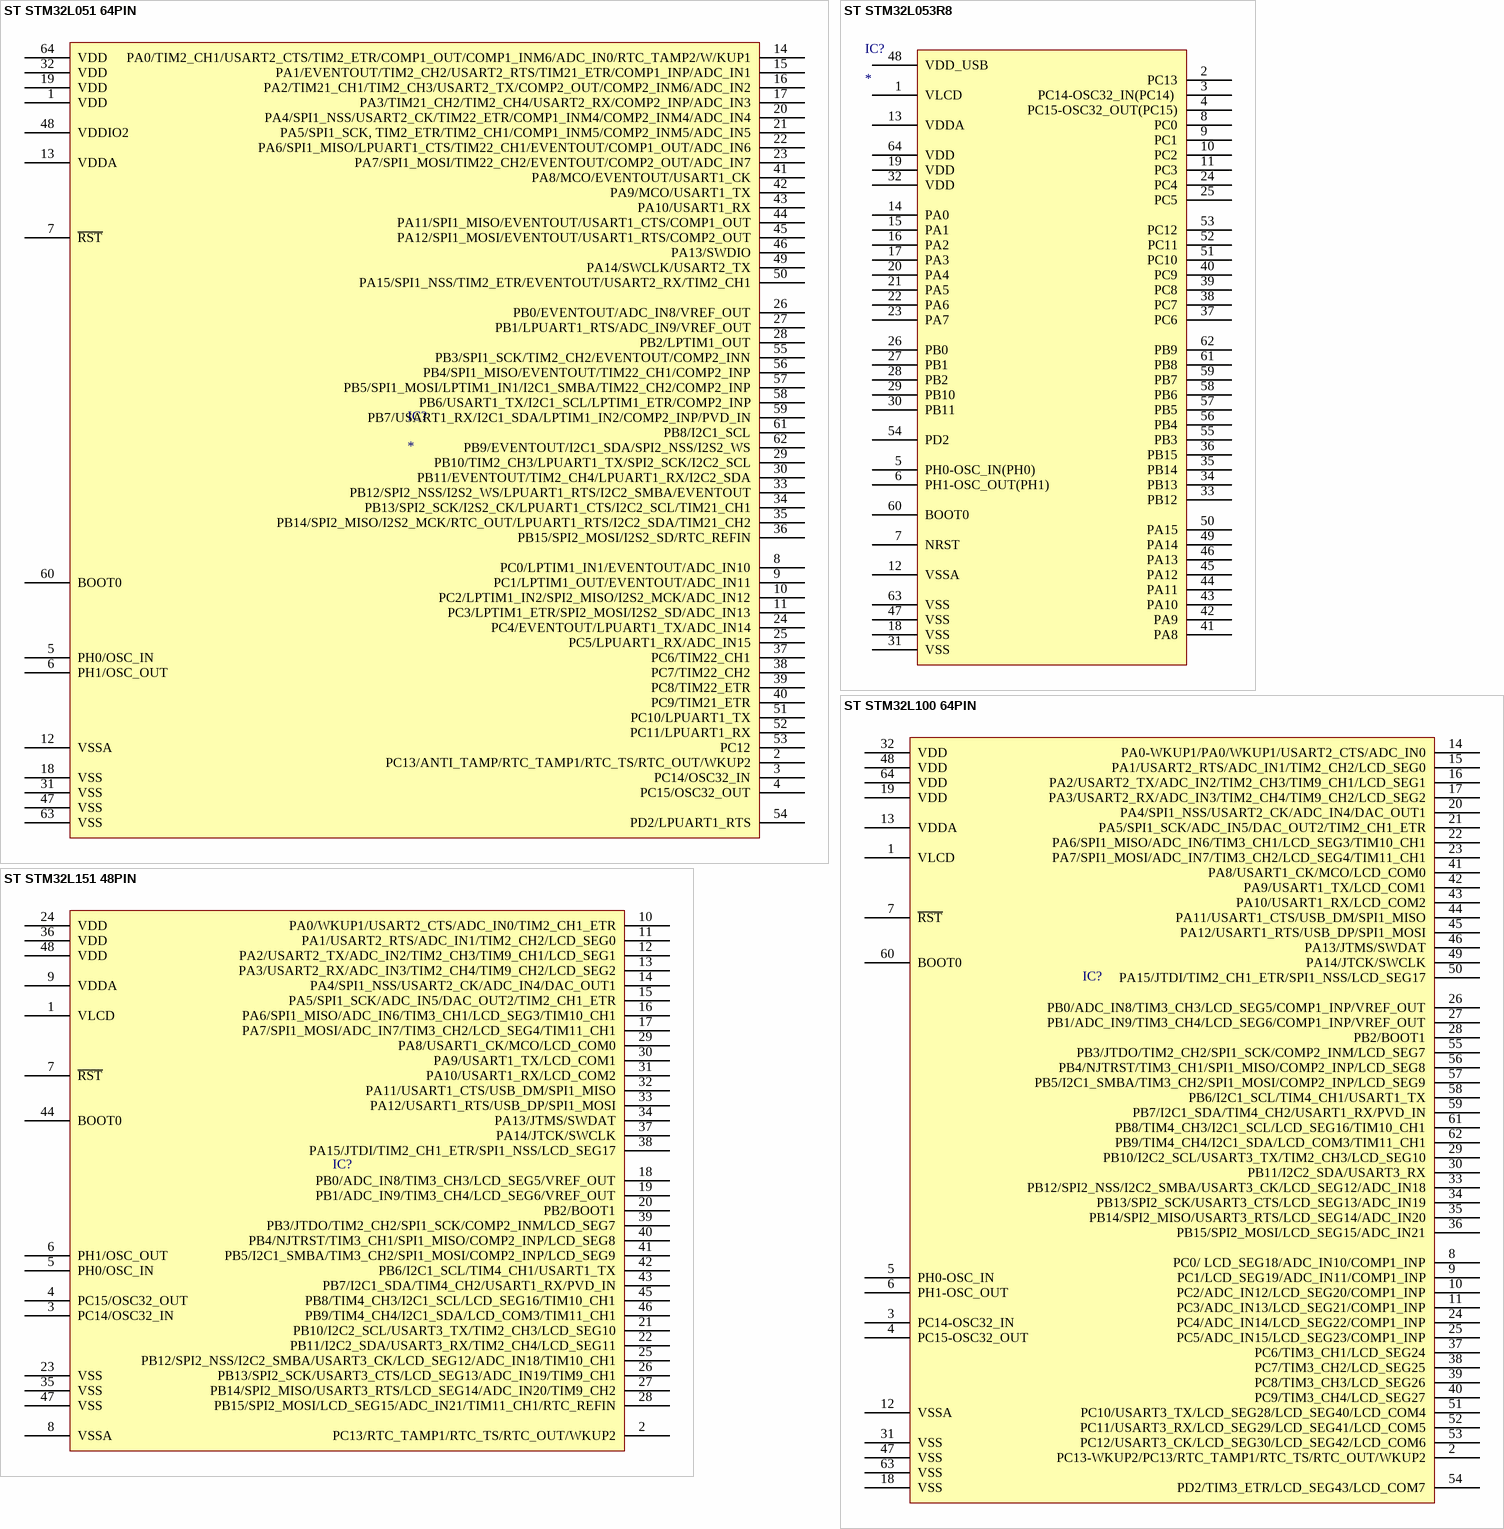
[diagram p17: symbols ST STM32L051 64PIN to ST STM32L151 48PIN]

## ST STM32L051 64PIN
designator IC?
pins: 1 VDD, 2 PC13/ANTI_TAMP/RTC_TAMP1/RTC_TS/RTC_OUT/WKUP2, 3 PC14/OSC32_IN, 4 PC15/OSC32_OUT, 5 PH0/OSC_IN, 6 PH1/OSC_OUT, 7 ~{RST}, 8 PC0/LPTIM1_IN1/EVENTOUT/ADC_IN10, 9 PC1/LPTIM1_OUT/EVENTOUT/ADC_IN11, 10 PC2/LPTIM1_IN2/SPI2_MISO/I2S2_MCK/ADC_IN12, 11 PC3/LPTIM1_ETR/SPI2_MOSI/I2S2_SD/ADC_IN13, 12 VSSA, 13 VDDA, 14 PA0/TIM2_CH1/USART2_CTS/TIM2_ETR/COMP1_OUT/COMP1_INM6/ADC_IN0/RTC_TAMP2/W/KUP1, 15 PA1/EVENTOUT/TIM2_CH2/USART2_RTS/TIM21_ETR/COMP1_INP/ADC_IN1, 16 PA2/TIM21_CH1/TIM2_CH3/USART2_TX/COMP2_OUT/COMP2_INM6/ADC_IN2, 17 PA3/TIM21_CH2/TIM2_CH4/USART2_RX/COMP2_INP/ADC_IN3, 18 VSS, 19 VDD, 20 PA4/SPI1_NSS/USART2_CK/TIM22_ETR/COMP1_INM4/COMP2_INM4/ADC_IN4, 21 PA5/SPI1_SCK, TIM2_ETR/TIM2_CH1/COMP1_INM5/COMP2_INM5/ADC_IN5, 22 PA6/SPI1_MISO/LPUART1_CTS/TIM22_CH1/EVENTOUT/COMP1_OUT/ADC_IN6, 23 PA7/SPI1_MOSI/TIM22_CH2/EVENTOUT/COMP2_OUT/ADC_IN7, 24 PC4/EVENTOUT/LPUART1_TX/ADC_IN14, 25 PC5/LPUART1_RX/ADC_IN15, 26 PB0/EVENTOUT/ADC_IN8/VREF_OUT, 27 PB1/LPUART1_RTS/ADC_IN9/VREF_OUT, 28 PB2/LPTIM1_OUT, 29 PB10/TIM2_CH3/LPUART1_TX/SPI2_SCK/I2C2_SCL, 30 PB11/EVENTOUT/TIM2_CH4/LPUART1_RX/I2C2_SDA, 31 VSS, 32 VDD, 33 PB12/SPI2_NSS/I2S2_WS/LPUART1_RTS/I2C2_SMBA/EVENTOUT, 34 PB13/SPI2_SCK/I2S2_CK/LPUART1_CTS/I2C2_SCL/TIM21_CH1, 35 PB14/SPI2_MISO/I2S2_MCK/RTC_OUT/LPUART1_RTS/I2C2_SDA/TIM21_CH2, 36 PB15/SPI2_MOSI/I2S2_SD/RTC_REFIN, 37 PC6/TIM22_CH1, 38 PC7/TIM22_CH2, 39 PC8/TIM22_ETR, 40 PC9/TIM21_ETR, 41 PA8/MCO/EVENTOUT/USART1_CK, 42 PA9/MCO/USART1_TX, 43 PA10/USART1_RX, 44 PA11/SPI1_MISO/EVENTOUT/USART1_CTS/COMP1_OUT, 45 PA12/SPI1_MOSI/EVENTOUT/USART1_RTS/COMP2_OUT, 46 PA13/SWDIO, 47 VSS, 48 VDDIO2, 49 PA14/SWCLK/USART2_TX, 50 PA15/SPI1_NSS/TIM2_ETR/EVENTOUT/USART2_RX/TIM2_CH1, 51 PC10/LPUART1_TX, 52 PC11/LPUART1_RX, 53 PC12, 54 PD2/LPUART1_RTS, 55 PB3/SPI1_SCK/TIM2_CH2/EVENTOUT/COMP2_INN, 56 PB4/SPI1_MISO/EVENTOUT/TIM22_CH1/COMP2_INP, 57 PB5/SPI1_MOSI/LPTIM1_IN1/I2C1_SMBA/TIM22_CH2/COMP2_INP, 58 PB6/USART1_TX/I2C1_SCL/LPTIM1_ETR/COMP2_INP, 59 PB7/USART1_RX/I2C1_SDA/LPTIM1_IN2/COMP2_INP/PVD_IN, 60 BOOT0, 61 PB8/I2C1_SCL, 62 PB9/EVENTOUT/I2C1_SDA/SPI2_NSS/I2S2_WS, 63 VSS, 64 VDD

## ST STM32L053R8
designator IC?
pins: 1 VLCD, 2 PC13, 3 PC14-OSC32_IN(PC14) , 4 PC15-OSC32_OUT(PC15), 5 PH0-OSC_IN(PH0), 6 PH1-OSC_OUT(PH1), 7 NRST, 8 PC0, 9 PC1, 10 PC2, 11 PC3, 12 VSSA, 13 VDDA, 14 PA0, 15 PA1, 16 PA2, 17 PA3, 18 VSS, 19 VDD, 20 PA4, 21 PA5, 22 PA6, 23 PA7, 24 PC4, 25 PC5, 26 PB0, 27 PB1, 28 PB2, 29 PB10, 30 PB11, 31 VSS, 32 VDD, 33 PB12, 34 PB13, 35 PB14, 36 PB15, 37 PC6, 38 PC7, 39 PC8, 40 PC9, 41 PA8, 42 PA9, 43 PA10, 44 PA11, 45 PA12, 46 PA13, 47 VSS, 48 VDD_USB, 49 PA14, 50 PA15, 51 PC10, 52 PC11, 53 PC12, 54 PD2, 55 PB3, 56 PB4, 57 PB5, 58 PB6, 59 PB7, 60 BOOT0, 61 PB8, 62 PB9, 63 VSS, 64 VDD

## ST STM32L100 64PIN
designator IC?
pins: 1 VLCD (power), 2 PC13-WKUP2/PC13/RTC_TAMP1/RTC_TS/RTC_OUT/WKUP2, 3 PC14-OSC32_IN "PC14-OSC32_IN/PC14/OSC32_IN", 4 PC15-OSC32_OUT "PC15-OSC32_OUT/PC15/OSC32_OUT", 5 PH0-OSC_IN "PH0-OSC_IN/PH0/OSC_IN", 6 PH1-OSC_OUT "PH1-OSC_OUT/PH1/OSC_OUT", 7 ~{RST} "NRST", 8 PC0/ LCD_SEG18/ADC_IN10/COMP1_INP "PC0/ADC_IN10/LCD_SEG18/COMP1_INP", 9 PC1/LCD_SEG19/ADC_IN11/COMP1_INP "PC1/ADC_IN11/LCD_SEG19/COMP1_INP", 10 PC2/ADC_IN12/LCD_SEG20/COMP1_INP, 11 PC3/ADC_IN13/LCD_SEG21/COMP1_INP, 12 VSSA (power), 13 VDDA (power), 14 PA0-WKUP1/PA0/WKUP1/USART2_CTS/ADC_IN0 "PA0-WKUP1/PA0/WKUP1/USART2_CTS/ADC_IN0/TIM2_CH1_ETR/COMP1_INP", 15 PA1/USART2_RTS/ADC_IN1/TIM2_CH2/LCD_SEG0 "PA1/USART2_RTS/ADC_IN1/TIM2_CH2/LCD_SEG0/COMP1_INP", 16 PA2/USART2_TX/ADC_IN2/TIM2_CH3/TIM9_CH1/LCD_SEG1 "PA2/USART2_TX/ADC_IN2/TIM2_CH3/TIM9_CH1/LCD_SEG1/COMP1_INP", 17 PA3/USART2_RX/ADC_IN3/TIM2_CH4/TIM9_CH2/LCD_SEG2 "PA3/USART2_RX/ADC_IN3/TIM2_CH4/TIM9_CH2/LCD_SEG2/COMP1_INP", 18 VSS (power) "VSS_4", 19 VDD (power) "VDD_4", 20 PA4/SPI1_NSS/USART2_CK/ADC_IN4/DAC_OUT1 "PA4/SPI1_NSS/USART2_CK/ADC_IN4/DAC_OUT1/COMP1_INP", 21 PA5/SPI1_SCK/ADC_IN5/DAC_OUT2/TIM2_CH1_ETR "PA5/SPI1_SCK/ADC_IN5/DAC_OUT2/TIM2_CH1_ETR/COMP1_INP", 22 PA6/SPI1_MISO/ADC_IN6/TIM3_CH1/LCD_SEG3/TIM10_CH1 "PA6/SPI1_MISO/ADC_IN6/TIM3_CH1/TIM1_BKIN/LCD_SEG3/TIM10_CH1/COMP1_INP", 23 PA7/SPI1_MOSI/ADC_IN7/TIM3_CH2/LCD_SEG4/TIM11_CH1 "PA7/SPI1_MOSI/ADC_IN7/LCD_SEG4", 24 PC4/ADC_IN14/LCD_SEG22/COMP1_INP, 25 PC5/ADC_IN15/LCD_SEG23/COMP1_INP, 26 PB0/ADC_IN8/TIM3_CH3/LCD_SEG5/COMP1_INP/VREF_OUT, 27 PB1/ADC_IN9/TIM3_CH4/LCD_SEG6/COMP1_INP/VREF_OUT, 28 PB2/BOOT1, 29 PB10/I2C2_SCL/USART3_TX/TIM2_CH3/LCD_SEG10, 30 PB11/I2C2_SDA/USART3_RX "PB11/I2C2_SDA/USART3_RX/TIM2_CH4/LCD_SEG11", 31 VSS (power) "VSS_1", 32 VDD (power) "VDD_1", 33 PB12/SPI2_NSS/I2C2_SMBA/USART3_CK/LCD_SEG12/ADC_IN18 "PB12/SPI2_NSS/I2C2_SMBA/USART3_CK/LCD_SEG12/ADC_IN18/COMP1_INP/TIM10_CH1", 34 PB13/SPI2_SCK/USART3_CTS/LCD_SEG13/ADC_IN19 "PB13/SPI2_SCK/USART3_CTS/LCD_SEG13/ADC_IN19/COMP1_INP/TIM9_CH1", 35 PB14/SPI2_MISO/USART3_RTS/LCD_SEG14/ADC_IN20 "PB14/SPI2_MISO/USART3_RTS/LCD_SEG14/ADC_IN20/COMP1_INP/TIM9_CH2", 36 PB15/SPI2_MOSI/LCD_SEG15/ADC_IN21, 37 PC6/TIM3_CH1/LCD_SEG24, 38 PC7/TIM3_CH2/LCD_SEG25, 39 PC8/TIM3_CH3/LCD_SEG26, 40 PC9/TIM3_CH4/LCD_SEG27, 41 PA8/USART1_CK/MCO/LCD_COM0, 42 PA9/USART1_TX/LCD_COM1, 43 PA10/USART1_RX/LCD_COM2, 44 PA11/USART1_CTS/USB_DM/SPI1_MISO, 45 PA12/USART1_RTS/USB_DP/SPI1_MOSI, 46 PA13/JTMS/SWDAT, 47 VSS (power) "VSS_2", 48 VDD (power) "VDD_2", 49 PA14/JTCK/SWCLK, 50 PA15/JTDI/TIM2_CH1_ETR/SPI1_NSS/LCD_SEG17, 51 PC10/USART3_TX/LCD_SEG28/LCD_SEG40/LCD_COM4, 52 PC11/USART3_RX/LCD_SEG29/LCD_SEG41/LCD_COM5, 53 PC12/USART3_CK/LCD_SEG30/LCD_SEG42/LCD_COM6, 54 PD2/TIM3_ETR/LCD_SEG43/LCD_COM7, 55 PB3/JTDO/TIM2_CH2/SPI1_SCK/COMP2_INM/LCD_SEG7, 56 PB4/NJTRST/TIM3_CH1/SPI1_MISO/COMP2_INP/LCD_SEG8, 57 PB5/I2C1_SMBA/TIM3_CH2/SPI1_MOSI/COMP2_INP/LCD_SEG9, 58 PB6/I2C1_SCL/TIM4_CH1/USART1_TX, 59 PB7/I2C1_SDA/TIM4_CH2/USART1_RX/PVD_IN, 60 BOOT0, 61 PB8/TIM4_CH3/I2C1_SCL/LCD_SEG16/TIM10_CH1, 62 PB9/TIM4_CH4/I2C1_SDA/LCD_COM3/TIM11_CH1, 63 VSS (power) "VSS_3", 64 VDD (power) "VDD_3"

## ST STM32L151 48PIN
designator IC?
pins: 1 VLCD, 2 PC13/RTC_TAMP1/RTC_TS/RTC_OUT/WKUP2, 3 PC14/OSC32_IN, 4 PC15/OSC32_OUT, 5 PH0/OSC_IN, 6 PH1/OSC_OUT, 7 ~{RST} "NRST", 8 VSSA, 9 VDDA, 10 PA0/WKUP1/USART2_CTS/ADC_IN0/TIM2_CH1_ETR, 11 PA1/USART2_RTS/ADC_IN1/TIM2_CH2/LCD_SEG0, 12 PA2/USART2_TX/ADC_IN2/TIM2_CH3/TIM9_CH1/LCD_SEG1, 13 PA3/USART2_RX/ADC_IN3/TIM2_CH4/TIM9_CH2/LCD_SEG2, 14 PA4/SPI1_NSS/USART2_CK/ADC_IN4/DAC_OUT1, 15 PA5/SPI1_SCK/ADC_IN5/DAC_OUT2/TIM2_CH1_ETR, 16 PA6/SPI1_MISO/ADC_IN6/TIM3_CH1/LCD_SEG3/TIM10_CH1, 17 PA7/SPI1_MOSI/ADC_IN7/TIM3_CH2/LCD_SEG4/TIM11_CH1, 18 PB0/ADC_IN8/TIM3_CH3/LCD_SEG5/VREF_OUT, 19 PB1/ADC_IN9/TIM3_CH4/LCD_SEG6/VREF_OUT, 20 PB2/BOOT1, 21 PB10/I2C2_SCL/USART3_TX/TIM2_CH3/LCD_SEG10, 22 PB11/I2C2_SDA/USART3_RX/TIM2_CH4/LCD_SEG11, 23 VSS, 24 VDD, 25 PB12/SPI2_NSS/I2C2_SMBA/USART3_CK/LCD_SEG12/ADC_IN18/TIM10_CH1, 26 PB13/SPI2_SCK/USART3_CTS/LCD_SEG13/ADC_IN19/TIM9_CH1, 27 PB14/SPI2_MISO/USART3_RTS/LCD_SEG14/ADC_IN20/TIM9_CH2, 28 PB15/SPI2_MOSI/LCD_SEG15/ADC_IN21/TIM11_CH1/RTC_REFIN, 29 PA8/USART1_CK/MCO/LCD_COM0, 30 PA9/USART1_TX/LCD_COM1, 31 PA10/USART1_RX/LCD_COM2, 32 PA11/USART1_CTS/USB_DM/SPI1_MISO, 33 PA12/USART1_RTS/USB_DP/SPI1_MOSI, 34 PA13/JTMS/SWDAT, 35 VSS, 36 VDD, 37 PA14/JTCK/SWCLK, 38 PA15/JTDI/TIM2_CH1_ETR/SPI1_NSS/LCD_SEG17, 39 PB3/JTDO/TIM2_CH2/SPI1_SCK/COMP2_INM/LCD_SEG7, 40 PB4/NJTRST/TIM3_CH1/SPI1_MISO/COMP2_INP/LCD_SEG8, 41 PB5/I2C1_SMBA/TIM3_CH2/SPI1_MOSI/COMP2_INP/LCD_SEG9, 42 PB6/I2C1_SCL/TIM4_CH1/USART1_TX, 43 PB7/I2C1_SDA/TIM4_CH2/USART1_RX/PVD_IN, 44 BOOT0, 45 PB8/TIM4_CH3/I2C1_SCL/LCD_SEG16/TIM10_CH1, 46 PB9/TIM4_CH4/I2C1_SDA/LCD_COM3/TIM11_CH1, 47 VSS, 48 VDD

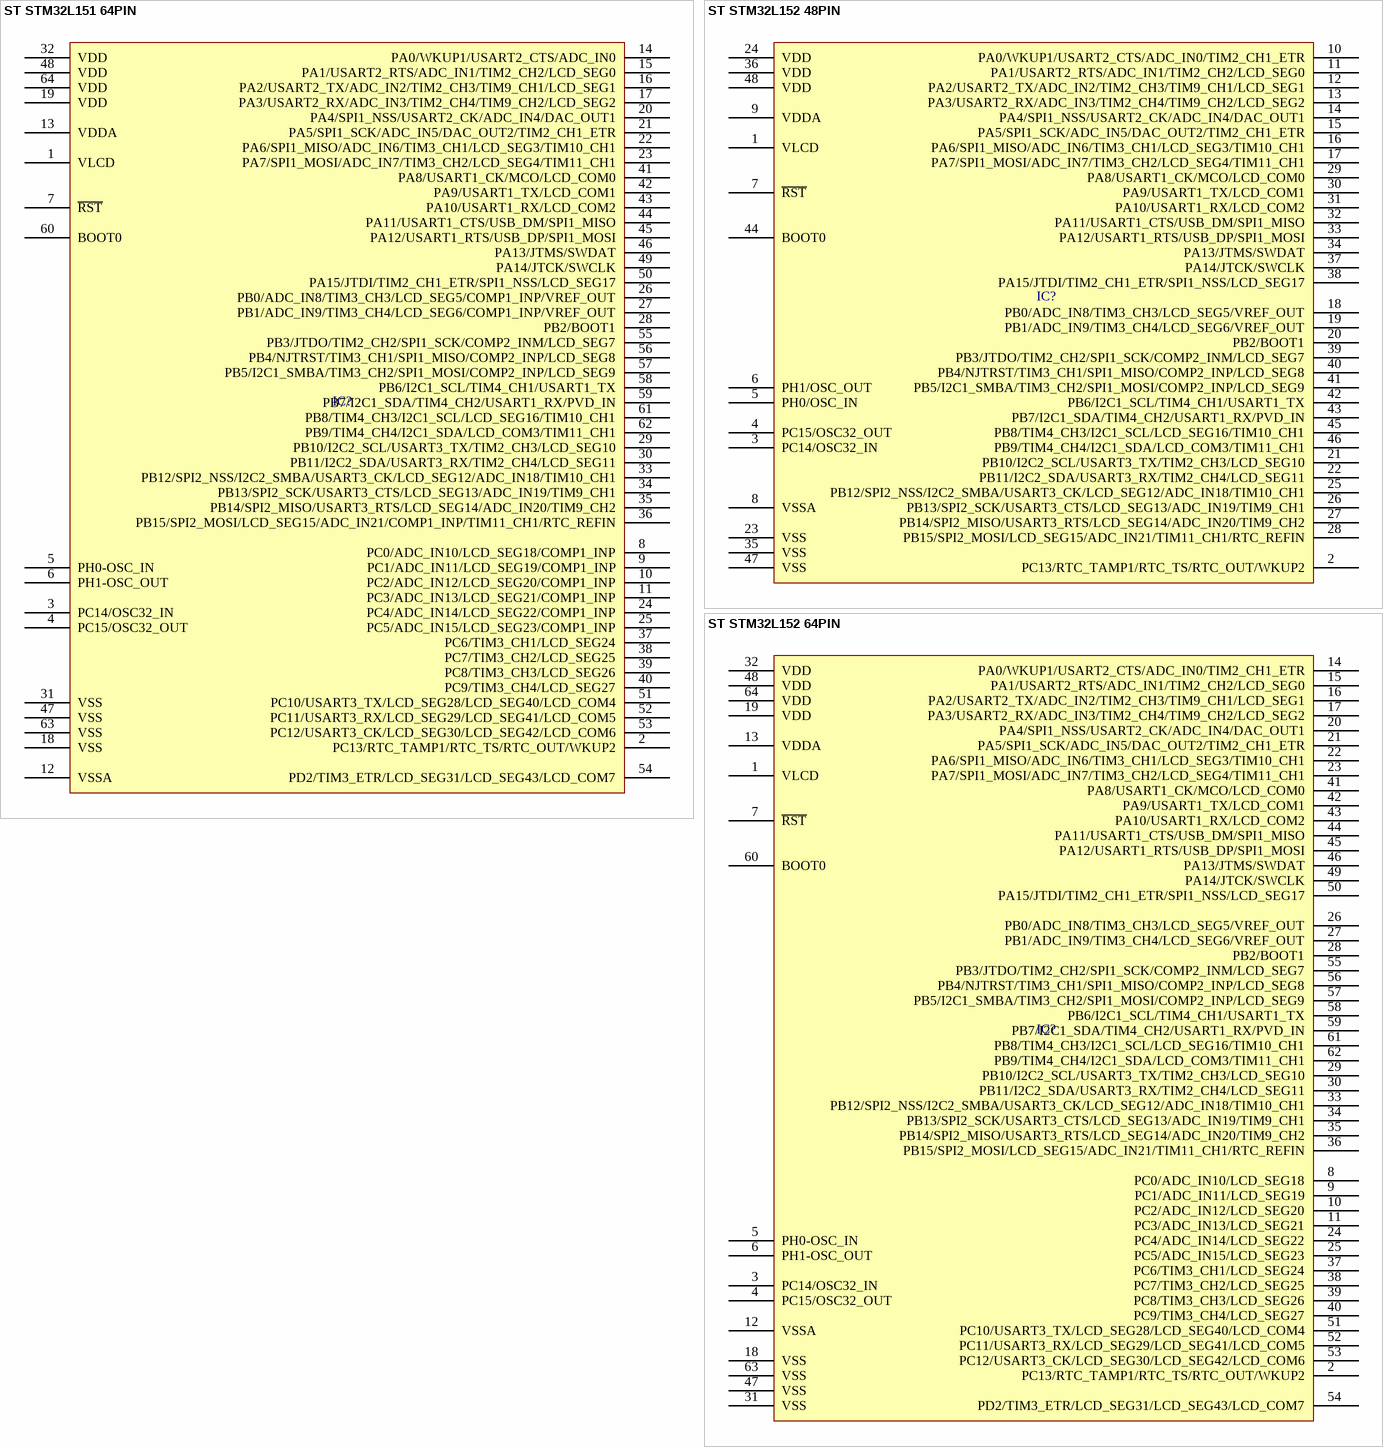
[diagram p18: symbols ST STM32L151 64PIN to ST STM32L152 64PIN]

## ST STM32L151 64PIN
designator IC?
pins: 1 VLCD, 2 PC13/RTC_TAMP1/RTC_TS/RTC_OUT/WKUP2 "PC13-WKUP2/PC13/RTC_TAMP1/RTC_TS/RTC_OUT/WKUP2", 3 PC14/OSC32_IN "PC14-OSC32_IN/PC14/OSC32_IN", 4 PC15/OSC32_OUT "PC15-OSC32_OUT/PC15/OSC32_OUT", 5 PH0-OSC_IN "PH0-OSC_IN/PH0/OSC_IN", 6 PH1-OSC_OUT "PH1-OSC_OUT/PH1/OSC_OUT", 7 ~{RST} "NRST", 8 PC0/ADC_IN10/LCD_SEG18/COMP1_INP, 9 PC1/ADC_IN11/LCD_SEG19/COMP1_INP, 10 PC2/ADC_IN12/LCD_SEG20/COMP1_INP, 11 PC3/ADC_IN13/LCD_SEG21/COMP1_INP, 12 VSSA, 13 VDDA, 14 PA0/WKUP1/USART2_CTS/ADC_IN0 "PA0-WKUP1/PA0/WKUP1/USART2_CTS/ADC_IN0/TIM2_CH1_ETR/COMP1_INP", 15 PA1/USART2_RTS/ADC_IN1/TIM2_CH2/LCD_SEG0 "PA1/USART2_RTS/ADC_IN1/TIM2_CH2/LCD_SEG0/COMP1_INP", 16 PA2/USART2_TX/ADC_IN2/TIM2_CH3/TIM9_CH1/LCD_SEG1 "PA2/USART2_TX/ADC_IN2/TIM2_CH3/TIM9_CH1/LCD_SEG1/COMP1_INP", 17 PA3/USART2_RX/ADC_IN3/TIM2_CH4/TIM9_CH2/LCD_SEG2 "PA3/USART2_RX/ADC_IN3/TIM2_CH4/TIM9_CH2/LCD_SEG2/COMP1_INP", 18 VSS, 19 VDD, 20 PA4/SPI1_NSS/USART2_CK/ADC_IN4/DAC_OUT1 "PA4/SPI1_NSS/USART2_CK/ADC_IN4/DAC_OUT1/COMP1_INP", 21 PA5/SPI1_SCK/ADC_IN5/DAC_OUT2/TIM2_CH1_ETR "PA5/SPI1_SCK/ADC_IN5/DAC_OUT2/TIM2_CH1_ETR/COMP1_INP", 22 PA6/SPI1_MISO/ADC_IN6/TIM3_CH1/LCD_SEG3/TIM10_CH1 "PA6/SPI1_MISO/ADC_IN6/TIM3_CH1/LCD_SEG3/TIM10_CH1/COMP1_INP", 23 PA7/SPI1_MOSI/ADC_IN7/TIM3_CH2/LCD_SEG4/TIM11_CH1 "PA7/SPI1_MOSI/ADC_IN7/TIM3_CH2/LCD_SEG4/TIM11_CH1/COMP1_INP", 24 PC4/ADC_IN14/LCD_SEG22/COMP1_INP, 25 PC5/ADC_IN15/LCD_SEG23/COMP1_INP, 26 PB0/ADC_IN8/TIM3_CH3/LCD_SEG5/COMP1_INP/VREF_OUT, 27 PB1/ADC_IN9/TIM3_CH4/LCD_SEG6/COMP1_INP/VREF_OUT, 28 PB2/BOOT1, 29 PB10/I2C2_SCL/USART3_TX/TIM2_CH3/LCD_SEG10, 30 PB11/I2C2_SDA/USART3_RX/TIM2_CH4/LCD_SEG11, 31 VSS, 32 VDD, 33 PB12/SPI2_NSS/I2C2_SMBA/USART3_CK/LCD_SEG12/ADC_IN18/TIM10_CH1 "PB12/SPI2_NSS/I2C2_SMBA/USART3_CK/LCD_SEG12/ADC_IN18/COMP1_INP/TIM10_CH1", 34 PB13/SPI2_SCK/USART3_CTS/LCD_SEG13/ADC_IN19/TIM9_CH1 "PB13/SPI2_SCK/USART3_CTS/LCD_SEG13/ADC_IN19/COMP1_INP/TIM9_CH1", 35 PB14/SPI2_MISO/USART3_RTS/LCD_SEG14/ADC_IN20/TIM9_CH2 "PB14/SPI2_MISO/USART3_RTS/LCD_SEG14/ADC_IN20/COMP1_INP/TIM9_CH2", 36 PB15/SPI2_MOSI/LCD_SEG15/ADC_IN21/COMP1_INP/TIM11_CH1/RTC_REFIN, 37 PC6/TIM3_CH1/LCD_SEG24, 38 PC7/TIM3_CH2/LCD_SEG25, 39 PC8/TIM3_CH3/LCD_SEG26, 40 PC9/TIM3_CH4/LCD_SEG27, 41 PA8/USART1_CK/MCO/LCD_COM0, 42 PA9/USART1_TX/LCD_COM1, 43 PA10/USART1_RX/LCD_COM2, 44 PA11/USART1_CTS/USB_DM/SPI1_MISO, 45 PA12/USART1_RTS/USB_DP/SPI1_MOSI, 46 PA13/JTMS/SWDAT, 47 VSS, 48 VDD, 49 PA14/JTCK/SWCLK, 50 PA15/JTDI/TIM2_CH1_ETR/SPI1_NSS/LCD_SEG17, 51 PC10/USART3_TX/LCD_SEG28/LCD_SEG40/LCD_COM4, 52 PC11/USART3_RX/LCD_SEG29/LCD_SEG41/LCD_COM5, 53 PC12/USART3_CK/LCD_SEG30/LCD_SEG42/LCD_COM6, 54 PD2/TIM3_ETR/LCD_SEG31/LCD_SEG43/LCD_COM7, 55 PB3/JTDO/TIM2_CH2/SPI1_SCK/COMP2_INM/LCD_SEG7, 56 PB4/NJTRST/TIM3_CH1/SPI1_MISO/COMP2_INP/LCD_SEG8, 57 PB5/I2C1_SMBA/TIM3_CH2/SPI1_MOSI/COMP2_INP/LCD_SEG9, 58 PB6/I2C1_SCL/TIM4_CH1/USART1_TX, 59 PB7/I2C1_SDA/TIM4_CH2/USART1_RX/PVD_IN, 60 BOOT0, 61 PB8/TIM4_CH3/I2C1_SCL/LCD_SEG16/TIM10_CH1, 62 PB9/TIM4_CH4/I2C1_SDA/LCD_COM3/TIM11_CH1, 63 VSS, 64 VDD

## ST STM32L152 48PIN
designator IC?
pins: 1 VLCD, 2 PC13/RTC_TAMP1/RTC_TS/RTC_OUT/WKUP2, 3 PC14/OSC32_IN "PC14-OSC32_IN/PC14/OSC32_IN", 4 PC15/OSC32_OUT "PC15-OSC32_OUT/PC15/OSC32_OUT", 5 PH0/OSC_IN "PH0-OSC_IN/PH0/OSC_IN", 6 PH1/OSC_OUT "PH1-OSC_OUT/PH1/OSC_OUT", 7 ~{RST} "NRST", 8 VSSA, 9 VDDA, 10 PA0/WKUP1/USART2_CTS/ADC_IN0/TIM2_CH1_ETR, 11 PA1/USART2_RTS/ADC_IN1/TIM2_CH2/LCD_SEG0, 12 PA2/USART2_TX/ADC_IN2/TIM2_CH3/TIM9_CH1/LCD_SEG1, 13 PA3/USART2_RX/ADC_IN3/TIM2_CH4/TIM9_CH2/LCD_SEG2, 14 PA4/SPI1_NSS/USART2_CK/ADC_IN4/DAC_OUT1, 15 PA5/SPI1_SCK/ADC_IN5/DAC_OUT2/TIM2_CH1_ETR, 16 PA6/SPI1_MISO/ADC_IN6/TIM3_CH1/LCD_SEG3/TIM10_CH1, 17 PA7/SPI1_MOSI/ADC_IN7/TIM3_CH2/LCD_SEG4/TIM11_CH1, 18 PB0/ADC_IN8/TIM3_CH3/LCD_SEG5/VREF_OUT, 19 PB1/ADC_IN9/TIM3_CH4/LCD_SEG6/VREF_OUT, 20 PB2/BOOT1, 21 PB10/I2C2_SCL/USART3_TX/TIM2_CH3/LCD_SEG10, 22 PB11/I2C2_SDA/USART3_RX/TIM2_CH4/LCD_SEG11, 23 VSS, 24 VDD, 25 PB12/SPI2_NSS/I2C2_SMBA/USART3_CK/LCD_SEG12/ADC_IN18/TIM10_CH1, 26 PB13/SPI2_SCK/USART3_CTS/LCD_SEG13/ADC_IN19/TIM9_CH1, 27 PB14/SPI2_MISO/USART3_RTS/LCD_SEG14/ADC_IN20/TIM9_CH2, 28 PB15/SPI2_MOSI/LCD_SEG15/ADC_IN21/TIM11_CH1/RTC_REFIN, 29 PA8/USART1_CK/MCO/LCD_COM0, 30 PA9/USART1_TX/LCD_COM1, 31 PA10/USART1_RX/LCD_COM2, 32 PA11/USART1_CTS/USB_DM/SPI1_MISO, 33 PA12/USART1_RTS/USB_DP/SPI1_MOSI, 34 PA13/JTMS/SWDAT, 35 VSS, 36 VDD, 37 PA14/JTCK/SWCLK, 38 PA15/JTDI/TIM2_CH1_ETR/SPI1_NSS/LCD_SEG17, 39 PB3/JTDO/TIM2_CH2/SPI1_SCK/COMP2_INM/LCD_SEG7, 40 PB4/NJTRST/TIM3_CH1/SPI1_MISO/COMP2_INP/LCD_SEG8, 41 PB5/I2C1_SMBA/TIM3_CH2/SPI1_MOSI/COMP2_INP/LCD_SEG9, 42 PB6/I2C1_SCL/TIM4_CH1/USART1_TX, 43 PB7/I2C1_SDA/TIM4_CH2/USART1_RX/PVD_IN, 44 BOOT0, 45 PB8/TIM4_CH3/I2C1_SCL/LCD_SEG16/TIM10_CH1, 46 PB9/TIM4_CH4/I2C1_SDA/LCD_COM3/TIM11_CH1, 47 VSS, 48 VDD

## ST STM32L152 64PIN
designator IC?
pins: 1 VLCD, 2 PC13/RTC_TAMP1/RTC_TS/RTC_OUT/WKUP2, 3 PC14/OSC32_IN "PC14-OSC32_IN/PC14/OSC32_IN", 4 PC15/OSC32_OUT "PC15-OSC32_OUT/PC15/OSC32_OUT", 5 PH0-OSC_IN "PH0-OSC_IN/PH0/OSC_IN", 6 PH1-OSC_OUT "PH1-OSC_OUT/PH1/OSC_OUT", 7 ~{RST} "NRST", 8 PC0/ADC_IN10/LCD_SEG18, 9 PC1/ADC_IN11/LCD_SEG19, 10 PC2/ADC_IN12/LCD_SEG20, 11 PC3/ADC_IN13/LCD_SEG21, 12 VSSA, 13 VDDA, 14 PA0/WKUP1/USART2_CTS/ADC_IN0/TIM2_CH1_ETR, 15 PA1/USART2_RTS/ADC_IN1/TIM2_CH2/LCD_SEG0, 16 PA2/USART2_TX/ADC_IN2/TIM2_CH3/TIM9_CH1/LCD_SEG1, 17 PA3/USART2_RX/ADC_IN3/TIM2_CH4/TIM9_CH2/LCD_SEG2, 18 VSS, 19 VDD, 20 PA4/SPI1_NSS/USART2_CK/ADC_IN4/DAC_OUT1, 21 PA5/SPI1_SCK/ADC_IN5/DAC_OUT2/TIM2_CH1_ETR, 22 PA6/SPI1_MISO/ADC_IN6/TIM3_CH1/LCD_SEG3/TIM10_CH1, 23 PA7/SPI1_MOSI/ADC_IN7/TIM3_CH2/LCD_SEG4/TIM11_CH1, 24 PC4/ADC_IN14/LCD_SEG22, 25 PC5/ADC_IN15/LCD_SEG23, 26 PB0/ADC_IN8/TIM3_CH3/LCD_SEG5/VREF_OUT, 27 PB1/ADC_IN9/TIM3_CH4/LCD_SEG6/VREF_OUT, 28 PB2/BOOT1, 29 PB10/I2C2_SCL/USART3_TX/TIM2_CH3/LCD_SEG10, 30 PB11/I2C2_SDA/USART3_RX/TIM2_CH4/LCD_SEG11, 31 VSS, 32 VDD, 33 PB12/SPI2_NSS/I2C2_SMBA/USART3_CK/LCD_SEG12/ADC_IN18/TIM10_CH1, 34 PB13/SPI2_SCK/USART3_CTS/LCD_SEG13/ADC_IN19/TIM9_CH1, 35 PB14/SPI2_MISO/USART3_RTS/LCD_SEG14/ADC_IN20/TIM9_CH2, 36 PB15/SPI2_MOSI/LCD_SEG15/ADC_IN21/TIM11_CH1/RTC_REFIN, 37 PC6/TIM3_CH1/LCD_SEG24, 38 PC7/TIM3_CH2/LCD_SEG25, 39 PC8/TIM3_CH3/LCD_SEG26, 40 PC9/TIM3_CH4/LCD_SEG27, 41 PA8/USART1_CK/MCO/LCD_COM0, 42 PA9/USART1_TX/LCD_COM1, 43 PA10/USART1_RX/LCD_COM2, 44 PA11/USART1_CTS/USB_DM/SPI1_MISO, 45 PA12/USART1_RTS/USB_DP/SPI1_MOSI, 46 PA13/JTMS/SWDAT, 47 VSS, 48 VDD, 49 PA14/JTCK/SWCLK, 50 PA15/JTDI/TIM2_CH1_ETR/SPI1_NSS/LCD_SEG17, 51 PC10/USART3_TX/LCD_SEG28/LCD_SEG40/LCD_COM4, 52 PC11/USART3_RX/LCD_SEG29/LCD_SEG41/LCD_COM5, 53 PC12/USART3_CK/LCD_SEG30/LCD_SEG42/LCD_COM6, 54 PD2/TIM3_ETR/LCD_SEG31/LCD_SEG43/LCD_COM7, 55 PB3/JTDO/TIM2_CH2/SPI1_SCK/COMP2_INM/LCD_SEG7, 56 PB4/NJTRST/TIM3_CH1/SPI1_MISO/COMP2_INP/LCD_SEG8, 57 PB5/I2C1_SMBA/TIM3_CH2/SPI1_MOSI/COMP2_INP/LCD_SEG9, 58 PB6/I2C1_SCL/TIM4_CH1/USART1_TX, 59 PB7/I2C1_SDA/TIM4_CH2/USART1_RX/PVD_IN, 60 BOOT0, 61 PB8/TIM4_CH3/I2C1_SCL/LCD_SEG16/TIM10_CH1, 62 PB9/TIM4_CH4/I2C1_SDA/LCD_COM3/TIM11_CH1, 63 VSS, 64 VDD